# EAGLE library part 623326235521 (library Header_R_ESP32)
1.27mm SMT Straight Dual Low Profile Pin Header WR-PHD 26POS Manufacturer's datasheet <https://katalog.we-online.com/em/datasheet/623326235521.pdf>
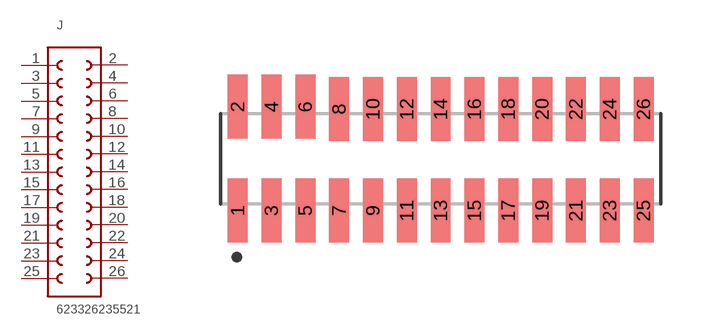
[diagram p35: symbol with the pads of 623326235521; footprint 623326235521]

Designator prefix J

## 623326235521 (CREATED_BY: PCBLayout.com; MANUFACTURER: WURTH ELEKTRONIK; MPN: 623326235521)  [623326235521]
1  1  pas
2  2  pas
3  3  pas
4  4  pas
5  5  pas
6  6  pas
7  7  pas
8  8  pas
9  9  pas
10  10  pas
11  11  pas
12  12  pas
13  13  pas
14  14  pas
15  15  pas
16  16  pas
17  17  pas
18  18  pas
19  19  pas
20  20  pas
21  21  pas
22  22  pas
23  23  pas
24  24  pas
25  25  pas
26  26  pas

## Footprint 623326235521 (pad centres in mm)
smd 0.75 x 2.4: 1 -7.62,-1.95; 2 -7.62,1.95; 3 -6.35,-1.95; 4 -6.35,1.95; 5 -5.08,-1.95; 6 -5.08,1.95; 7 -3.81,-1.95; 8 -3.81,1.86; 9 -2.54,-1.95; 10 -2.54,1.86; 11 -1.27,-1.95; 12 -1.27,1.86; 13 0,-1.95; 14 0,1.86; 15 1.27,-1.95; 16 1.27,1.86; 17 2.54,-1.95; 18 2.54,1.86; 19 3.81,-1.95; 20 3.81,1.86; 21 5.08,-1.95; 22 5.08,1.86; 23 6.35,-1.95; 24 6.35,1.86; 25 7.62,-1.95; 26 7.62,1.86